# EAGLE library part DRV135 (library BurrBrownAudioParts)
Audio Balanced Line Drivers
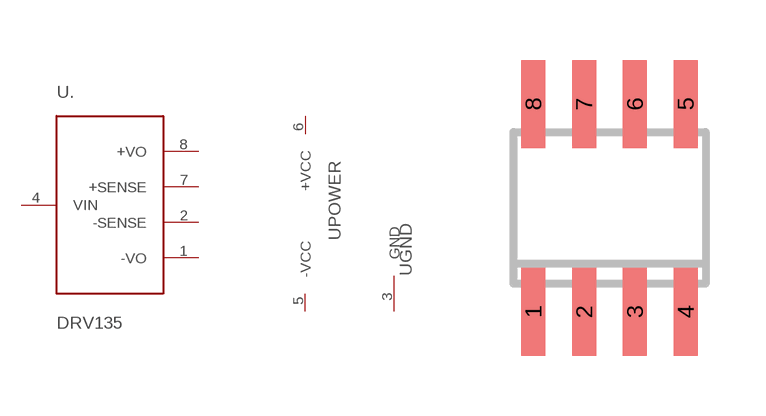
[diagram p5: symbol with the pads of SO08; footprint SO08]

Designator prefix -; gates .=DRV134-1 POWER=+-V GND=GROUND

## DRV135UA  [SO08]
1  .:-VO
2  .:-SENSE
3  GND:GND  pwr
4  .:VIN
5  POWER:-VCC  pwr
6  POWER:+VCC  pwr
7  .:+SENSE
8  .:+VO

## Footprint SO08 (pad centres in mm)
SMALL OUTLINE INTEGRATED CIRCUIT body 3.9 mm/JEDEC MS-012AA
smd 0.6 x 2.2: 1 -1.905,-2.6; 2 -0.635,-2.6; 3 0.635,-2.6; 4 1.905,-2.6; 5 1.905,2.6; 6 0.635,2.6; 7 -0.635,2.6; 8 -1.905,2.6